# EAGLE library part MAX3323 (library AIC_Custom)
RS232 TRANSCEIVER
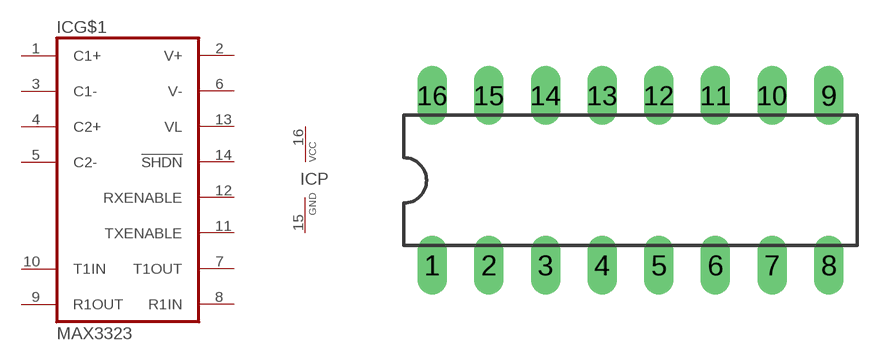
[diagram p17: symbol with the pads of DIL16; footprint DIL16]

Designator prefix IC; gates P=VCC-GND G$1=MAX3323

## MAX3323DIP  [DIL16]
1  G$1:C1+
2  G$1:V+
3  G$1:C1-
4  G$1:C2+
5  G$1:C2-
6  G$1:V-
7  G$1:T1OUT  out
8  G$1:R1IN  in
9  G$1:R1OUT  out
10  G$1:T1IN  in
11  G$1:TXENABLE
12  G$1:RXENABLE
13  G$1:VL
14  G$1:!SHDN
15  P:GND  pwr
16  P:VCC  pwr

## Footprint DIL16 (pad centres in mm)
Dual In Line Package
drill 0.813 long: 1 -8.89,-3.81; 2 -6.35,-3.81; 3 -3.81,-3.81; 4 -1.27,-3.81; 5 1.27,-3.81; 6 3.81,-3.81; 7 6.35,-3.81; 8 8.89,-3.81; 9 8.89,3.81; 10 6.35,3.81; 11 3.81,3.81; 12 1.27,3.81; 13 -1.27,3.81; 14 -3.81,3.81; 15 -6.35,3.81; 16 -8.89,3.81